# EAGLE library part 691230310006 (library Eagle_WR-TBL Rising Cage Clamp (rev20a))
WR-TBL Serie 2303 - 3.81 mm Double Level Horiz. Entry Modular w. Rising Cage KIND PROPERTIES Pitch 3.81 mm MATERIAL PROPERTIES Insulator Material PA66 Insulator Flammability Rating UL94 V-0 Insulator Color Green Contact Material Brass Contact Plating Copper over Zinc Terminal Screw Material Steel Terminal Screw Plating Zinc Wire Guard Material Stainless Steel GENERAL INFORMATION Operating Temperature -40 up to +105 °C Compliance Lead free / RoHS ELECTRICAL PROPERTIES IR UL 10 A Working Voltage [UL] 300 V (AC) Withstanding Voltage [UL] 1600 V (AC) Withstanding Voltage [cULus] 1600 V (AC) Contact Resistance [UL] 20 mΩ Contact Resistance [cULus] 20 mΩ MECHANICAL PROPERTIES Wire Strip Length 5 up to 6 (mm) Screw M2 CERTIFICATION cULus Approval E315414 UL Approval E315414 PACKAGING PROPERTIES Packaging Box <https://www.we-online.com/catalog/media/o33242v209%20Family_WR-TBL_69123031000x.jpg> Details see: https://www.we-online.com/catalog/en/TBL_3_81_2303_DOUBLE_LEVEL_HORIZONTAL_ENTRY_MODULAR_W_RISING_CAGE_69123031000X/ Updated by Ella Wu 2019-11-21 2019(C) Wurth Elektronik
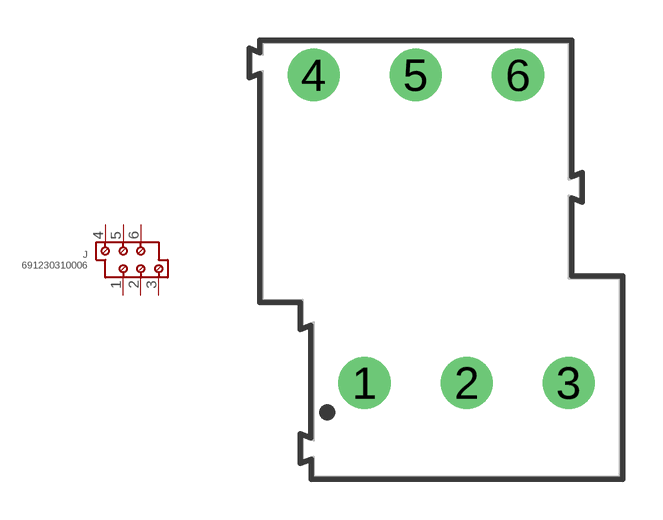
[diagram p37: symbol with the pads of 691230310006; footprint 691230310006]

Designator prefix J

## 691230310006 (DATASHEET-URL: https://www.we-online.com/catalog/datasheet/691230310006.pdf; IR-UL: 10A; MOUNT: THT; PART-NUMBER: 691230310006; PINS: 6; PITCH: 3.81mm; TYPE: Double Level Horizontal; WIRE: 24 to 16 (AWG) 0.205 to 1.31 (mm²); WORKING-VOLTAGE-UL: 300V (AC))  [691230310006]
1  1  pas
2  2  pas
3  3  pas
4  4  pas
5  5  pas
6  6  pas

## Footprint 691230310006 (pad centres in mm)
WR-TBL Serie 2303 - 3.81 mm Double Level Horiz. Entry Modular w. Rising Cage Max Height =16.2mm , Pitch 3.81mm , 6 Pins
drill 1.3: 1 -3.81,0; 2 0,0; 3 3.81,0; 4 -5.71,11.5; 5 -1.9,11.5; 6 1.91,11.5